# EAGLE library part PIC16F1826-X-P (library Microchip-Tim)
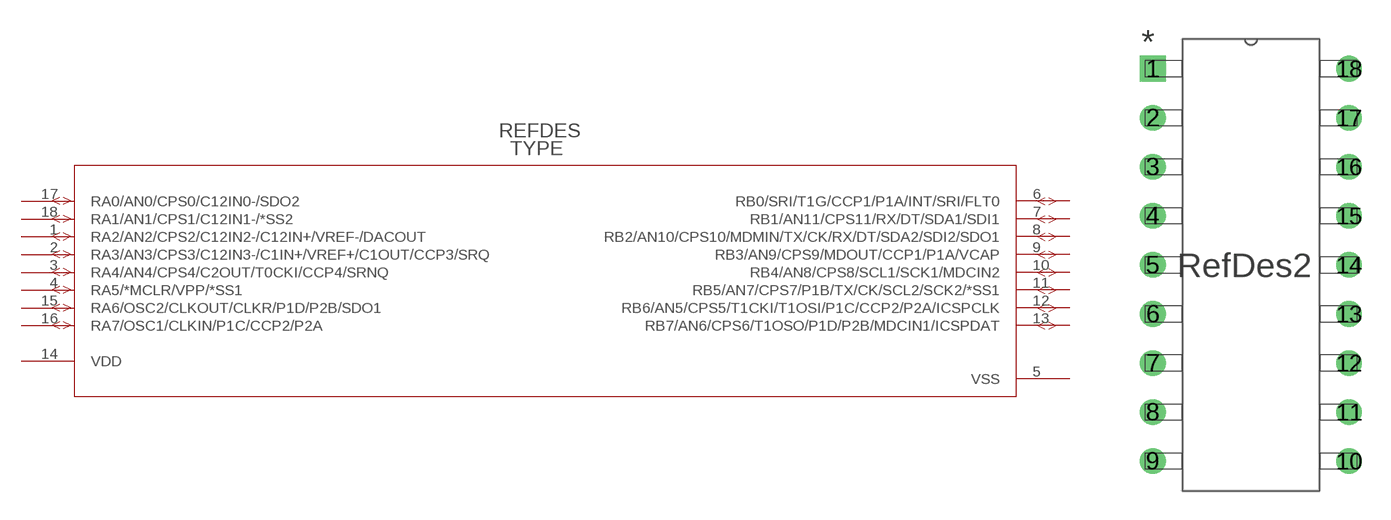
[diagram p0: symbol with the pads of PIC16F1826-X/P; footprint PIC16F1826-X/P]

Designator prefix -

## PIC16F1826-X-P  [PIC16F1826-X/P]
1  RA2/AN2/CPS2/C12IN2-/C12IN+/VREF-/DACOUT  pas
2  RA3/AN3/CPS3/C12IN3-/C1IN+/VREF+/C1OUT/CCP3/SRQ  pas
3  RA4/AN4/CPS4/C2OUT/T0CKI/CCP4/SRNQ  pas
4  RA5/*MCLR/VPP/*SS1  pas
5  VSS  pas
6  RB0/SRI/T1G/CCP1/P1A/INT/SRI/FLT0  pas
7  RB1/AN11/CPS11/RX/DT/SDA1/SDI1  pas
8  RB2/AN10/CPS10/MDMIN/TX/CK/RX/DT/SDA2/SDI2/SDO1  pas
9  RB3/AN9/CPS9/MDOUT/CCP1/P1A/VCAP  pas
10  RB4/AN8/CPS8/SCL1/SCK1/MDCIN2  pas
11  RB5/AN7/CPS7/P1B/TX/CK/SCL2/SCK2/*SS1  pas
12  RB6/AN5/CPS5/T1CKI/T1OSI/P1C/CCP2/P2A/ICSPCLK  pas
13  RB7/AN6/CPS6/T1OSO/P1D/P2B/MDCIN1/ICSPDAT  pas
14  VDD  pas
15  RA6/OSC2/CLKOUT/CLKR/P1D/P2B/SDO1  pas
16  RA7/OSC1/CLKIN/P1C/CCP2/P2A  pas
17  RA0/AN0/CPS0/C12IN0-/SDO2  pas
18  RA1/AN1/CPS1/C12IN1-/*SS2  pas

## Footprint PIC16F1826-X/P (pad centres in mm)
drill 0.813 square: 1 -10.16,20.32
drill 0.813 round: 2 -10.16,17.78; 3 -10.16,15.24; 4 -10.16,12.7; 5 -10.16,10.16; 6 -10.16,7.62; 7 -10.16,5.08; 8 -10.16,2.54; 9 -10.16,0; 10 0,0; 11 0,2.54; 12 0,5.08; 13 0,7.62; 14 0,10.16; 15 0,12.7; 16 0,15.24; 17 0,17.78; 18 0,20.32